# EAGLE library part RP2350A (library ds_ic_mcu)
RP2350 is a new family of microcontrollers from Raspberry Pi that offers significant enhancements over RP2040. Key features include: • Dual Cortex-M33 or Hazard3 processors at 150 MHz • 520 kB on-chip SRAM, in 10 independent banks • 8 kB of one-time-programmable storage (OTP) • Up to 16 MB of external QSPI flash/PSRAM via dedicated QSPI bus - Additional 16 MB flash/PSRAM accessible via optional second chip-select • On-chip switched-mode power supply to generate core voltage - Low-quiescent-current LDO mode can be enabled for sleep states • 2× on-chip PLLs for internal or external clock generation • Security features: - Optional boot signing, enforced by on-chip mask ROM, with key fingerprint in OTP - Protected OTP storage for optional boot decryption key - Global bus filtering based on Arm or RISC-V security/privilege levels - Peripherals, GPIOs and DMA channels individually assignable to security domains - Hardware mitigations for fault injection attacks - Hardware SHA-256 accelerator • Peripherals: - 2× UARTs - 2× SPI controllers - 2× I2C controllers - 24× PWM channels - USB 1.1 controller and PHY, with host and device support - 12× PIO state machines - 1× HSTX peripheral
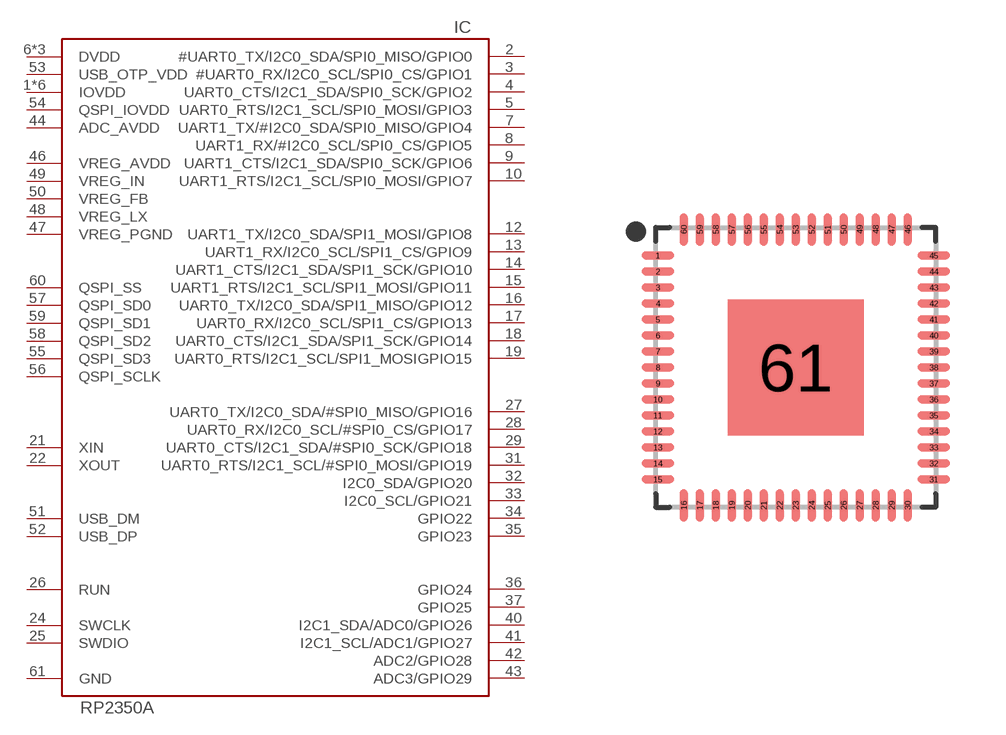
[diagram p11: symbol with the pads of QFN40P700X700X85-61T340N; footprint QFN40P700X700X85-61T340N]

Designator prefix IC

## RP2350AA  [QFN40P700X700X85-61T340N]
1  IOVDD  pwr
2  #UART0_TX/I2C0_SDA/SPI0_MISO/GPIO0
3  #UART0_RX/I2C0_SCL/SPI0_CS/GPIO1
4  UART0_CTS/I2C1_SDA/SPI0_SCK/GPIO2
5  UART0_RTS/I2C1_SCL/SPI0_MOSI/GPIO3
6  DVDD  pwr
7  UART1_TX/#I2C0_SDA/SPI0_MISO/GPIO4
8  UART1_RX/#I2C0_SCL/SPI0_CS/GPIO5
9  UART1_CTS/I2C1_SDA/SPI0_SCK/GPIO6
10  UART1_RTS/I2C1_SCL/SPI0_MOSI/GPIO7
11  IOVDD  pwr
12  UART1_TX/I2C0_SDA/SPI1_MOSI/GPIO8
13  UART1_RX/I2C0_SCL/SPI1_CS/GPIO9
14  UART1_CTS/I2C1_SDA/SPI1_SCK/GPIO10
15  UART1_RTS/I2C1_SCL/SPI1_MOSI/GPIO11
16  UART0_TX/I2C0_SDA/SPI1_MISO/GPIO12
17  UART0_RX/I2C0_SCL/SPI1_CS/GPIO13
18  UART0_CTS/I2C1_SDA/SPI1_SCK/GPIO14
19  UART0_RTS/I2C1_SCL/SPI1_MOSIGPIO15
20  IOVDD  pwr
21  XIN  in
22  XOUT  out
23  DVDD  pwr
24  SWCLK
25  SWDIO
26  RUN
27  UART0_TX/I2C0_SDA/#SPI0_MISO/GPIO16
28  UART0_RX/I2C0_SCL/#SPI0_CS/GPIO17
29  UART0_CTS/I2C1_SDA/#SPI0_SCK/GPIO18
30  IOVDD  pwr
31  UART0_RTS/I2C1_SCL/#SPI0_MOSI/GPIO19
32  I2C0_SDA/GPIO20
33  I2C0_SCL/GPIO21
34  GPIO22
35  GPIO23
36  GPIO24
37  GPIO25
38  IOVDD  pwr
39  DVDD  pwr
40  I2C1_SDA/ADC0/GPIO26
41  I2C1_SCL/ADC1/GPIO27
42  ADC2/GPIO28
43  ADC3/GPIO29
44  ADC_AVDD  pwr
45  IOVDD  pwr
46  VREG_AVDD  pwr
47  VREG_PGND  pwr
48  VREG_LX  pwr
49  VREG_IN  pwr
50  VREG_FB  pwr
51  USB_DM
52  USB_DP
53  USB_OTP_VDD
54  QSPI_IOVDD  pwr
55  QSPI_SD3
56  QSPI_SCLK
57  QSPI_SD0
58  QSPI_SD2
59  QSPI_SD1
60  QSPI_SS
61  GND  pwr

## Footprint QFN40P700X700X85-61T340N (pad centres in mm)
60-QFN, 0.40 mm pitch, 7.00 X 7.00 X 0.85 mm body, 3.40 X 3.40 mm thermal pad 60-pin QFN package with 0.40 mm pitch with body size 7.00 X 7.00 X 0.85 mm and thermal pad size 3.40 X 3.40 mm
smd 0.811 x 0.2: 1 -3.451,2.8; 2 -3.451,2.4; 3 -3.451,2; 4 -3.451,1.6; 5 -3.451,1.2; 6 -3.451,0.8; 7 -3.451,0.4; 8 -3.451,0; 9 -3.451,-0.4; 10 -3.451,-0.8; 11 -3.451,-1.2; 12 -3.451,-1.6; 13 -3.451,-2; 14 -3.451,-2.4; 15 -3.451,-2.8; 31 3.451,-2.8; 32 3.451,-2.4; 33 3.451,-2; 34 3.451,-1.6; 35 3.451,-1.2; 36 3.451,-0.8; 37 3.451,-0.4; 38 3.451,0; 39 3.451,0.4; 40 3.451,0.8; 41 3.451,1.2; 42 3.451,1.6; 43 3.451,2; 44 3.451,2.4; 45 3.451,2.8
smd 0.2 x 0.811: 16 -2.8,-3.451; 17 -2.4,-3.451; 18 -2,-3.451; 19 -1.6,-3.451; 20 -1.2,-3.451; 21 -0.8,-3.451; 22 -0.4,-3.451; 23 0,-3.451; 24 0.4,-3.451; 25 0.8,-3.451; 26 1.2,-3.451; 27 1.6,-3.451; 28 2,-3.451; 29 2.4,-3.451; 30 2.8,-3.451; 46 2.8,3.451; 47 2.4,3.451; 48 2,3.451; 49 1.6,3.451; 50 1.2,3.451; 51 0.8,3.451; 52 0.4,3.451; 53 0,3.451; 54 -0.4,3.451; 55 -0.8,3.451; 56 -1.2,3.451; 57 -1.6,3.451; 58 -2,3.451; 59 -2.4,3.451; 60 -2.8,3.451
smd 3.4 x 3.4: 61 0,0